# Altium schematic symbol library BLACKFIN.SCHLIB: 16 symbols
Pins are listed as number, name and electrical type; pins without a type are passive.

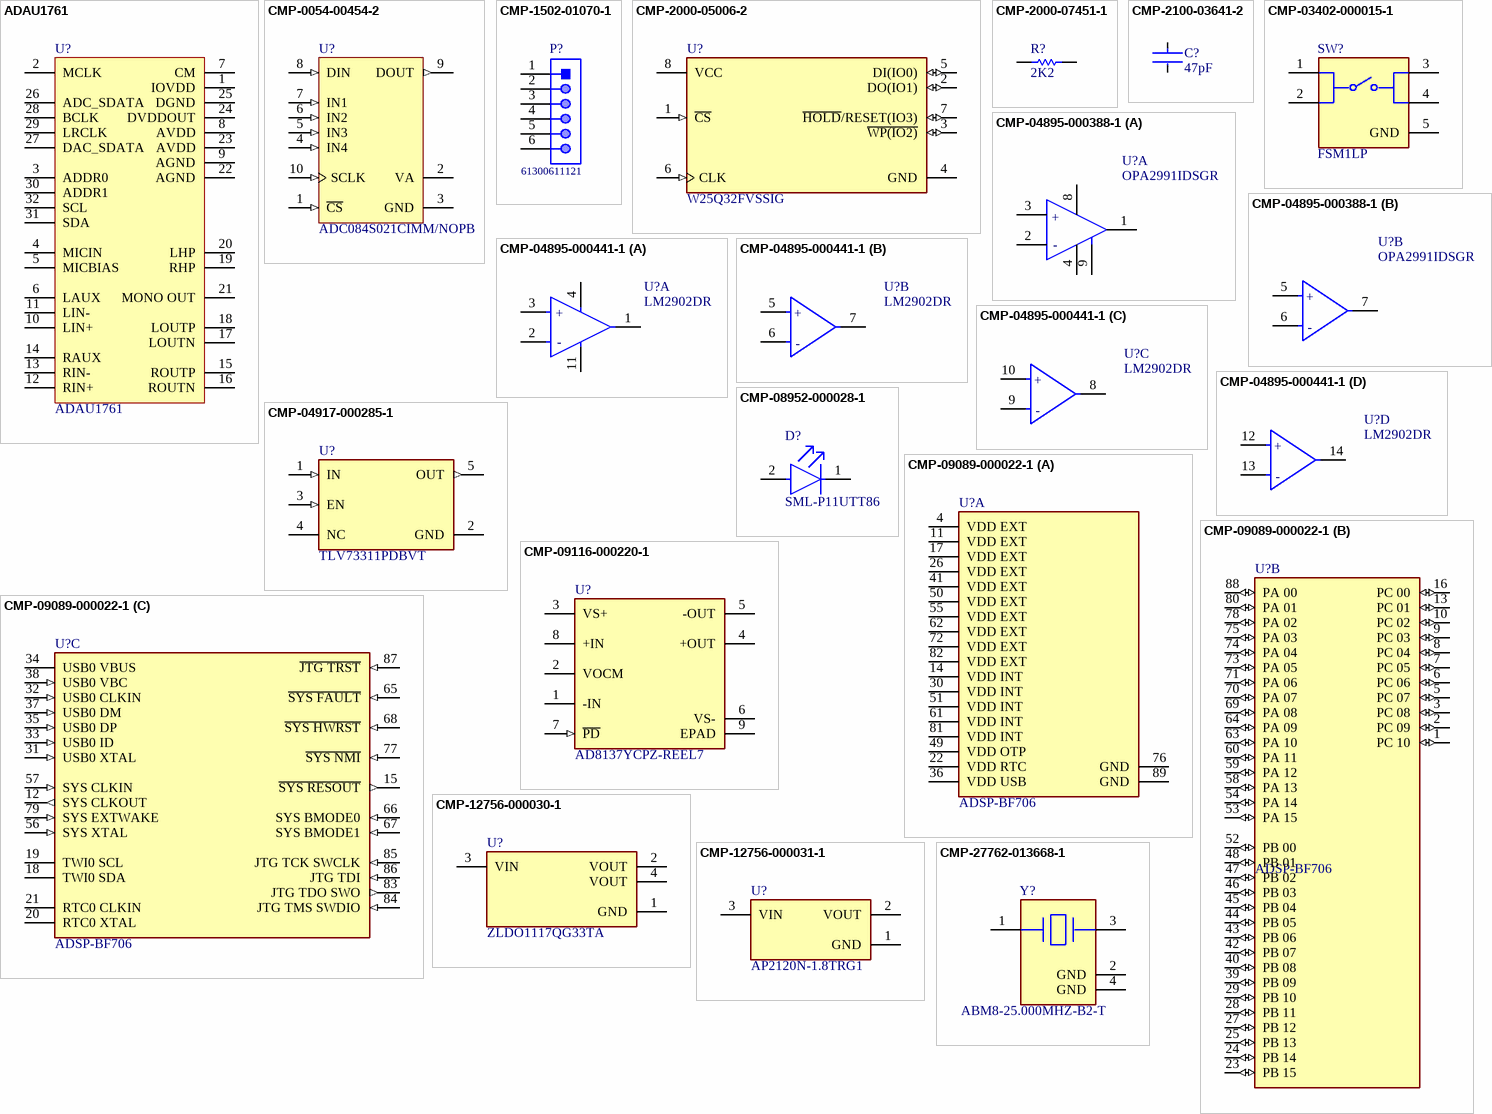
[diagram p0: symbols ADAU1761 to CMP-27762-013668-1]

## ADAU1761
designator U?
Interface - CODECs Low Power Codec w/Sigma DSP
footprint LFCSP-32 (SIGMADSP CODEC)
pins: 1 IOVDD, 2 MCLK, 3 ADDR0, 4 MICIN, 5 MICBIAS, 6 LAUX, 7 CM, 8 AVDD, 9 AGND, 10 LIN+, 11 LIN-, 12 RIN+, 13 RIN-, 14 RAUX, 15 ROUTP, 16 ROUTN, 17 LOUTN, 18 LOUTP, 19 RHP, 20 LHP, 21 MONO OUT, 22 AGND, 23 AVDD, 24 DVDDOUT, 25 DGND, 26 ADC_SDATA, 27 DAC_SDATA, 28 BCLK, 29 LRCLK, 30 ADDR1, 31 SDA, 32 SCL

## CMP-0054-00454-2
designator U?, comment ADC084S021CIMM/NOPB
4 Channel, 50 kSPS to 200 kSPS, 8-Bit A/D Converter, 10-pin Mini SOIC, Pb-Free; Manufacturer: National Semiconductor; Manufacturer: Texas Instruments; PackageTopMarking: ZXTT*X19C; PowerWise: Y; CompType: ADC IC; ComponentLink3Description: MUB10A Package Page; ComponentLink1Description: ADC084S021 Datasheet; DatasheetVersion: Aug-2008; PackageVersion: revB, Jul-2003; ComponentLink2URL: http://www.national.com/pf/AD/ADC084S021.html; RevisionNote: Component URLs added; PinCount: 10; PackageDescription: Mini-SO, Molded, .118 x .118 x .034in Body, 10 Lead, .0197in Pitch; RoHS: Y; Code_JEDEC: MO-187-BA; PackageReference: MUB10A; ComponentLink3URL: http://www.national.com/packaging/folders/mub10a.html; ComponentLink2Description: ADC084S021 Web Page; ComponentLink1URL: http://www.national.com/ds/AD/ADC084S021.pdf; Manufacturer Part Number: ADC084S021CIMM/NOPB
footprint MUB10A_N (TSSOP, 10-Leads, Body 3x3mm, Pitch 0.5mm, IPC Medium Density)
footprint MUB10A_L (TSSOP, 10-Leads, Body 3x3mm, Pitch 0.5mm, IPC High Density)
footprint MUB10A_M (TSSOP, 10-Leads, Body 3x3mm, Pitch 0.5mm, IPC Low Density)
pins: 1 ~{CS} (in), 2 VA (power), 3 GND (power), 4 IN4 (in), 5 IN3 (in), 6 IN2 (in), 7 IN1 (in), 8 DIN (in), 9 DOUT (out), 10 SCLK (in)

## CMP-1502-01070-1
designator P?, comment 61300611121
THT Vertical Pin Header WR-PHD, Pitch 2.54 mm, Single Row, 6 pins; Manufacturer: Wurth Elektronik; Manufacturer: Wurth Electronics; Gender: Male; Pin Number: 6; Pitch: 2.54mm; Working Voltage: 250VAC; Rated Current: 3A; Withstanding Voltage: 500VAC; Contact Resistance: 20mOhm; Operating Temperature: -40to105degC; Packaging: Bag; Datasheet URL: https://katalog.we-online.de/em/datasheet/6130xx11121.pdf; Package Reference: 61300611121; Mounting Technology: THT; Publisher: WurthElektronik; Part Number: 61300611121; Manufacturer URL: http://www.we-online.de; Row Number: Single; Orientation: Vertical; Manufacturer Part Number: 61300611121
footprint 61300611121 (Pin Header, pitch 2.54 mm, THT, Vertical, single row, 6p)
pins: 1, 2, 3, 4, 5, 6

## CMP-2000-05006-2
designator U?, comment W25Q32FVSSIG
IC FLASH 32M SPI 104MHZ 8SOIC; Manufacturer: Winbond; Obsolete Part: true; Access Time: 7ns; Nominal Supply Current: 8-20mA; Memory Size: 32Mbits; Max Supply Voltage: 3.6V; Min Supply Voltage: 2.7V; Standoff Height: 0.05mm; Interface: SPI,Other; Package: SS; Memory Type: FLASH; Ipc Land Pattern Name: SOIC127P790X195-8; Temperature Range High: +85°C; Temperature: -40°C to +85°C; Octopart: https://octopart.com/w25q32fvssig-winbond-23896462; Manufacturer Part Number: W25Q32FVSSIG; Ambient Temperature Range Low: -40°C; Lead Free: Yes; Height: 2.16mm; Automotive: No; Device Class L2: Memory; Digikey Description: IC FLASH 32M SPI 104MHZ 8SOIC; RoHS: TRUE; Frequency: 104MHz; Ambient Temperature Range High: +85°C; ComponentLink2Description: Datasheet; Category: IC; Device Class L1: Integrated Circuits (ICs); Device Class L3: Flash; Temperature Range Low: -40°C; Footprint Url: http://www.winbond.com/resource-files/an0000009%20spiflash%20pcb%20layout%20guideline%20v2.0%2009252017.pdf?__locale=en; ComponentLink2URL: https://www.winbond.com/resource-files/w25q32fv%20revj%2006032016.pdf
footprint FP-SS-MFG
footprint FP-SS-IPC_C
footprint FP-SS-IPC_B
footprint FP-SS-IPC_A
pins: 1 ~{CS} (in), 2 DO(IO1) (io), 3 ~{WP(IO2)} (io), 4 GND (power), 5 DI(IO0) (io), 6 CLK (in), 7 ~{HOLD}/RESET(IO3) (io), 8 VCC (power)

## CMP-2000-07451-1
designator R?, comment 2K2
Chip Resistor, 0 Ohm, 0.1 W, -55 to 155 degC, 0402 (1005 Metric), RoHS, Tape and Reel; Manufacturer: Panasonic; Manufacturer Part Number: ERJ-2GE0R00X; Voltage Rating (DC): 50V; Temperature Coefficient: 600ppm/��C; Max Power Dissipation: 100mW; Resistance: 0mOhm; Tolerance: 5%; Number of Terminations: 2; Mount: SurfaceMount; Height: 0.35mm; Packaging: TapeandReel; Contact Plating: Tin; Manufacturer URL: http://www.panasonic.com/; Composition: ThickFilm; Max Operating Temperature: 155degC; REACH SVHC: NoSVHC; Case/Package: 0402; Package Reference: 402; Depth: 0.5mm; Package Description: 2-Pin Surface Mount Device, Body 1 x 0.5 mm; Datasheet URL: https://industrial.panasonic.com/cdbs/www-data/pdf/RDA0000/AOA0000C301.pdf; RoHSCompliant: True; Case Code (Imperial): 0402; Military Standard: Not; Min Operating Temperature: -55degC; Power Rating: 100mW; Datasheet Version: 03/2015; Length: 1mm; Case Code (Metric): 1005; Termination: SMD/SMT; Mounting Technology: SurfaceMount; Voltage Rating: 50V; Width: 0.02inch; Package Quantity: 1; Lead Free: LeadFree; Radiation Hardening: No
footprint RESC1005X40X25LL05T05 (Chip Resistor, 2-Leads, Body 1.05x0.55mm, IPC High Density)
footprint RESC1005X40X25ML05T05 (Chip Resistor, 2-Leads, Body 1.05x0.55mm, IPC Low Density)
footprint RESC1005X40X25NL05T05 (Chip Resistor, 2-Leads, Body 1.05x0.55mm, IPC Medium Density)
pins: 1, 2

## CMP-2100-03641-2
designator C?, comment 47pF
CAP CER 0.1UF 16V X7R 0402; Manufacturer Part Number: GRM155R71C104KA88D; Manufacturer: Murata; Standoff Height: 0mm; Tolerance: 10%; Voltage Rating: 16Vdc; Material: Ceramic; Capacitance: 0.10μF; Value: 0.10μF; RoHS: TRUE; Temperature Characteristic: X7R; Octopart: https://octopart.com/grm155r71c104ka88d-murata-196880; Digikey Description: CAP CER 0.1UF 16V X7R 0402; Device Class L3: Ceramic Capacitors; Height: 0.55mm; ComponentLink2Description: Datasheet; Temperature Range Low: -55°C; Ipc Land Pattern Name: CAPC10050X219; ComponentLink2URL: https://search.murata.co.jp/Ceramy/image/img/A01X/G101/ENG/GRM155R71H471KA01-01A.pdf; Device Class L1: Passive Components; Lead Free: yes; Category: Cap; Package: GRM15; Temperature: -55°C to +125°C; Device Class L2: Capacitors; Temperature Range High: +125°C; Mouser Description: 0402 0.1 uF 16V ±10 % Tolerance X7R SMT Multilayer Ceramic Capacitor
footprint FP-GRM15-MFG
footprint FP-GRM15-IPC_C
footprint FP-GRM15-IPC_B
footprint FP-GRM15-IPC_A
pins: 1, 2

## CMP-03402-000015-1
designator SW?, comment FSM1LP
SWITCH TACTILE SPST-NO 0.05A 24V; Manufacturer: TE Connectivity Alcoswitch; Electrical Life: 100000Cycles; Actuator Type: Standard; Contact Resistance: 100mR; Current Rating: 50mA; Operating Force: 1.57N; Actuator Material: Polyphthalamide; Illumination Type: Non-Illuminated; Actuator Length: 0.01inch; Voltage Rating (DC): 12V; Throw Configuration: SPST; Switch Travel: 0.25mm; Switch Function: Off-Mom; Actuator Color: Black; Length: 6.19mm; Min Operating Temperature: -35°C; Contact Material: Copper Alloy; Max Current Rating: 50mA; Max Operating Temperature: 85°C; Packaging: Loose Piece; Lead Free: Lead Free; Mount: Surface Mount; RoHS Compliant: Yes; Orientation: Straight; Package Quantity: 2000; Mechanical Life: 100000Cycles; Type: Switch; ELV: Compliant; Depth: 8mm; Contact Plating: Silver; Max Voltage Rating (DC): 12V; REACH SVHC: No SVHC; Series: FSM1LP; Contact Current Rating: 50mA; Termination: Gull Wing; Manufacturer Part Number: FSM1LP
footprint FP-FSM1LP-MFG
pins: 1, 2, 3, 4, 5 GND (power)

## CMP-04895-000388-1
designator U?, comment OPA2991IDSGR
IC OPAMP GP 2 CIRCUIT; Manufacturer: Texas Instruments; RoHS Compliant: Yes; Manufacturer Part Number: OPA2991IDSGR
footprint FP-DSG0008A-MFG
footprint FP-DSG0008A-IPC_A
footprint FP-DSG0008A-IPC_B
footprint FP-DSG0008A-IPC_C
part A pins: 1 OUT1, 2 IN1- (hiz), 3 IN1+ (hiz), 4 V- (power), 8 V+ (power), 9 Thermal Pad (power)
part B pins: 5 IN2+ (hiz), 6 IN2- (hiz), 7 OUT2
part A text: +; -
part B text: +; -

## CMP-04895-000441-1
designator U?, comment LM2902DR
IC OPAMP GP 4 CIRCUIT 14SOIC; Manufacturer: Texas Instruments; Dual Supply Voltage: 9V; Min Supply Voltage: 3V; Voltage Gain: 100dB; Number of Amplifiers: 4; Nominal Supply Current: 3mA; Min Dual Supply Voltage: 1.5V; Output Current: 30mA; Common Mode Rejection Ratio: 50dB; Output Current per Channel: 60mA; Input Offset Voltage (Vos): 7mV; Input Bias Current: 250nA; Max Dual Supply Voltage: 13V; Slew Rate: 0.5V/µs; Operating Supply Current: 1.4mA; Bandwidth: 1.2MHz; Max Supply Voltage: 26V; Radiation Hardening: No; Contact Plating: Tin; Mount: Surface Mount; Width: 3.91mm; Number of Elements: 4; Number of Circuits: 4; Height: 1.58mm; Min Operating Temperature: -40°C; Length: 8.65mm; Package Quantity: 1; Packaging: Tape and Reel; Lead Free: Lead Free; Case/Package: SOIC; Number of Channels: 4; Max Operating Temperature: 125°C; REACH SVHC: No SVHC; Operating Supply Voltage: 13V; Unity Gain Bandwidth Product: 1.2MHz; Number of Pins: 14; Gain Bandwidth Product: 1.2MHz; Power Supply Rejection Ratio (PSRR): 50dB; Manufacturer Part Number: LM2902DR
footprint FP-D0014A-IPC_B
footprint FP-D0014A-MFG
footprint FP-D0014A-IPC_A
footprint FP-D0014A-IPC_C
part A pins: 1 1OUT, 2 1IN- (hiz), 3 1IN+ (hiz), 4 VCC (power), 11 GND (power)
part B pins: 5 2IN+ (hiz), 6 2IN- (hiz), 7 2OUT
part C pins: 8 3OUT, 9 3IN- (hiz), 10 3IN+ (hiz)
part D pins: 12 4IN+ (hiz), 13 4IN- (hiz), 14 4OUT
part A text: +; -
part B text: +; -
part C text: +; -
part D text: +; -

## CMP-04917-000285-1
designator U?, comment TLV73311PDBVT
IC REG LINEAR 1.1V 300MA SOT23-5; Manufacturer: Texas Instruments; Polarity: Positive; Number of Regulators: 1; Power Supply Rejection Ratio (PSRR): 68dB; Output Type: Fixed; Accuracy: 1%; Operating Supply Current: 34uA; Min Current Limit: 360mA; Quiescent Current: 60uA; Max Input Voltage: 5.5V; Min Input Voltage: 1.4V; Dropout Voltage: 460mV; Number of Pins: 5; Packaging: Tape and Reel; Max Output Current: 300mA; Mount: Surface Mount; Nominal Output Voltage: 1.1V; Output Voltage: 1.1V; REACH SVHC: No SVHC; RoHS Compliant: Yes; Output Current: 300mA; Lead Free: Lead Free; Weight: 0.000557oz; Package Quantity: 250; Min Operating Temperature: -40°C; Max Operating Temperature: 125°C; Number of Outputs: 1; Case/Package: SOT-23-5; Manufacturer Part Number: TLV73311PDBVT
footprint FP-DBV0005A-IPC_C
footprint FP-DBV0005A-MFG
footprint FP-DBV0005A-IPC_B
footprint FP-DBV0005A-IPC_A
pins: 1 IN (in), 2 GND (power), 3 EN (in), 4 NC, 5 OUT (out)

## CMP-08952-000028-1
designator D?, comment SML-P11UTT86
LED RED CLEAR 1006 SMD; Manufacturer: Rohm; Number of LEDs: 1; Lens Color: Colorless; Viewing Angle: 150°; Dominant Wavelength: 621nm; Luminous Intensity: 5.5mcd; Forward Voltage: 1.8V; Lens Style: Square; Test Current: 1mA; Forward Current: 20mA; Height: 0.25mm; Radiation Hardening: No; Color: Red; Case Code (Metric): 1005; Number of Pins: 2; RoHS Compliant: Yes; Max Operating Temperature: 85°C; Package Quantity: 1; Wavelength: 621nm; Lens Transparency: Clear; Packaging: Tape and Reel; Lead Free: Lead Free; Illumination Color: Red; Case/Package: 0402; Case Code (Imperial): 0402; Mount: Surface Mount; Min Operating Temperature: -40°C; Width: 0.6mm; Length: 1mm; Series: PicoLED™; REACH SVHC: No SVHC; Manufacturer Part Number: SML-P11UTT86
footprint FP-SML-P11UTT86-MFG
pins: 1 C, 2 A

## CMP-09089-000022-1
designator U?, comment ADSP-BF706
IC DSP LP 128KB L2SR 88LFCSP; Manufacturer: Analog Devices; Manufacturer Part Number: ADSP-BF700BCPZ-2; Frequency: 200MHz; Interface: I2C; Memory Size: 512KB; Number of Pins: 88; Min Operating Temperature: -40°C; Mount: Surface Mount; RoHS Compliant: Yes; Max Operating Temperature: 85°C; Lead Free: Contains Lead; Packaging: Tray; Max Frequency: 200MHz; RAM Size: 128KB
footprint FP-CP-88-8-IPC_C
footprint FP-CP-88-8-IPC_B
footprint FP-CP-88-8-IPC_A
part A pins: 4 VDD EXT (power), 11 VDD EXT (power), 14 VDD INT (power), 17 VDD EXT (power), 22 VDD RTC (power), 26 VDD EXT (power), 30 VDD INT (power), 36 VDD USB (power), 41 VDD EXT (power), 49 VDD OTP (power), 50 VDD EXT (power), 51 VDD INT (power), 55 VDD EXT (power), 61 VDD INT (power), 62 VDD EXT (power), 72 VDD EXT (power), 76 GND (power), 81 VDD INT (power), 82 VDD EXT (power), 89 GND (power)
part B pins: 1 PC 10 (io), 2 PC 09 (io), 3 PC 08 (io), 5 PC 07 (io), 6 PC 06 (io), 7 PC 05 (io), 8 PC 04 (io), 9 PC 03 (io), 10 PC 02 (io), 13 PC 01 (io), 16 PC 00 (io), 23 PB 15 (io), 24 PB 14 (io), 25 PB 13 (io), 27 PB 12 (io), 28 PB 11 (io), 29 PB 10 (io), 39 PB 09 (io), 40 PB 08 (io), 42 PB 07 (io), 43 PB 06 (io), 44 PB 05 (io), 45 PB 04 (io), 46 PB 03 (io), 47 PB 02 (io), 48 PB 01 (io), 52 PB 00 (io), 53 PA 15 (io), 54 PA 14 (io), 58 PA 13 (io), 59 PA 12 (io), 60 PA 11 (io), 63 PA 10 (io), 64 PA 09 (io), 69 PA 08 (io), 70 PA 07 (io), 71 PA 06 (io), 73 PA 05 (io), 74 PA 04 (io), 75 PA 03 (io), 78 PA 02 (io), 80 PA 01 (io), 88 PA 00 (io)
part C pins: 12 SYS CLKOUT (out), 15 ~{SYS RESOUT} (out), 18 TWI0 SDA, 19 TWI0 SCL, 20 RTC0 XTAL, 21 RTC0 CLKIN, 31 USB0 XTAL (in), 32 USB0 CLKIN (in), 33 USB0 ID (in), 34 USB0 VBUS (power), 35 USB0 DP (in), 37 USB0 DM (in), 38 USB0 VBC (in), 56 SYS XTAL (in), 57 SYS CLKIN (in), 65 ~{SYS FAULT} (in), 66 SYS BMODE0 (in), 67 SYS BMODE1 (in), 68 ~{SYS HWRST} (in), 77 ~{SYS NMI} (in), 79 SYS EXTWAKE (in), 83 JTG TDO SWO (out), 84 JTG TMS SWDIO (in), 85 JTG TCK SWCLK (in), 86 JTG TDI (in), 87 ~{JTG TRST} (in)

## CMP-09116-000220-1
designator U?, comment AD8137YCPZ-REEL7
IC OPAMP DIFF 1 CIRCUIT 8LFCSP; Manufacturer: Analog Devices; Power Supply Rejection Ratio (PSRR): 79dB; Gain Bandwidth Product: 110MHz; Supply Current: 3.2mA; Number of Amplifiers: 1; Input Offset Voltage (Vos): 2.7mV; Input Resistance: 800kR; Operating Supply Current: 3.6mA; Amplifier Type: DIFFERENTIAL; Min Dual Supply Voltage: 1.35V; Max Supply Voltage: 12V; Common Mode Rejection Ratio: 66dB; Output Current per Channel: 20mA; Max Dual Supply Voltage: 6V; Settling Time: 100ns; Max Supply Current: 245uA; Voltage Gain: 89dB; Slew Rate: 450V/µs; Min Supply Voltage: 2.7V; Input Bias Current: 900nA; Number of Bits: 12; Package Quantity: 1; Max Operating Temperature: 125°C; Number of Pins: 8; RoHS Compliant: Yes; Width: 3.1mm; Nominal Supply Current: 3.2mA; Bandwidth: 110MHz; Lead Free: Contains Lead; Height: 0.8mm; Number of Circuits: 1; Number of Channels: 1; Length: 3.1mm; Series: -; Min Operating Temperature: -40°C; Radiation Hardening: No; -3db Bandwidth: 110MHz; Number of Elements: 1; Packaging: Tape and Reel; Mount: Surface Mount; Case/Package: LFCSP EP; REACH SVHC: No SVHC; Manufacturer Part Number: AD8137YCPZ-REEL7
footprint FP-CP-8-13-IPC_C
footprint FP-CP-8-13-IPC_B
footprint FP-CP-8-13-IPC_A
pins: 1 -IN (hiz), 2 VOCM, 3 VS+ (power), 4 +OUT, 5 -OUT, 6 VS- (power), 7 ~{PD} (in), 8 +IN (hiz), 9 EPAD (power)

## CMP-12756-000030-1
designator U?, comment ZLDO1117QG33TA
IC REG LINEAR 3.3V 1A SOT223-3; Manufacturer: Diodes Zetex; Manufacturer Part Number: ZLDO1117G33TA; Dropout Voltage: 1.11V; Power Dissipation: 15W; Output Voltage Accuracy: 2%; Max Input Voltage: 18V; Output Type: Fixed; Number of Regulators: 1; Min Input Voltage: 2.7V; Min Current Limit: 1.1A; Quiescent Current: 10mA; Polarity: Positive; Length: 6.7mm; Min Operating Temperature: -40°C; Max Output Current: 1A; Min Output Voltage: 3.3V; Width: 3.7mm; Reference Voltage: 3.3V; Number of Pins: 3; Package Quantity: 1000; Tolerance: 2%; Max Operating Temperature: 125°C; Output Voltage: 3.3V; Accuracy: 2%; Case/Package: SOT-223; Lead Free: Lead Free; Radiation Hardening: No; Output Current: 1A; Number of Outputs: 1; Packaging: Tape and Reel; REACH SVHC: No SVHC; Max Power Dissipation: 15W; Height: 1.7mm; Mount: Surface Mount; Weight: 0.000282oz; Nominal Output Voltage: 3.3V
footprint FP-SOT223-MFG
footprint FP-SOT223-IPC_B
footprint FP-SOT223-IPC_C
footprint FP-SOT223-IPC_A
pins: 1 GND (power), 2 VOUT (power), 3 VIN (power), 4 VOUT (power)

## CMP-12756-000031-1
designator U?, comment AP2120N-1.8TRG1
IC REG LINEAR 1.8V 150MA SOT23; Manufacturer: Diodes; Quiescent Current: 50uA; Max Input Voltage: 6V; Accuracy: 2%; Power Supply Rejection Ratio (PSRR): 65dB; Number of Outputs: 1; Min Input Voltage: 2V; Polarity: Positive; Operating Supply Current: 25uA; Dropout Voltage: 300mV; Output Type: Fixed; Mount: Surface Mount; Packaging: Tape and Reel; Package Quantity: 3000; Weight: 0.000282oz; Lead Free: Lead Free; Width: 1.4mm; Height: 1.1mm; Length: 3mm; Output Current: 150mA; Case/Package: SOT-23; Number of Pins: 3; Max Operating Temperature: 85°C; Max Output Current: 150mA; Output Voltage: 1.8V; Number of Regulators: 1; Min Operating Temperature: -40°C; Manufacturer Part Number: AP2120N-1.8TRG1
footprint FP-SOT23-IPC_B
footprint FP-SOT23-IPC_C
footprint FP-SOT23-IPC_A
footprint FP-SOT23-MFG
pins: 1 GND (power), 2 VOUT (power), 3 VIN (power)

## CMP-27762-013668-1
designator Y?, comment ABM8-25.000MHZ-B2-T
Crystal 25MHz ±20ppm 18pF SMD-4 3.2mm x 2.5mm; Manufacturer: Abracon; ESR (Equivalent Series Resistance): 50R; Frequency Stability: 50ppm; Max Operating Temperature: 70°C; Operating Frequency: 25 MHz; Mount: Surface Mount; Case/Package: CSMD; Termination: SMD/SMT; Frequency: 25MHz; Frequency Tolerance: 20ppm; Load Capacitance: 18pF; Height: 0.031inch; Lead Free: Lead Free; Min Operating Temperature: -20°C; Depth: 2.5mm; Length: 3.2mm; Resistor Type: Ceramic; Series Resistance: 50R; Radiation Hardening: No; Series: ABM8; Width: 0.098inch; Number of Pins: 4; Package Quantity: 1000; Tolerance: 20ppm; Packaging: Tape and Reel; REACH SVHC: No SVHC; Manufacturer Part Number: ABM8-25.000MHZ-B2-T
footprint FP-ABM8-MFG
pins: 1, 2 GND (power), 3, 4 GND (power)